# Altium integrated library Actel ProASIC3 FPGA.IntLib: 373 symbols (part 2 of 2)
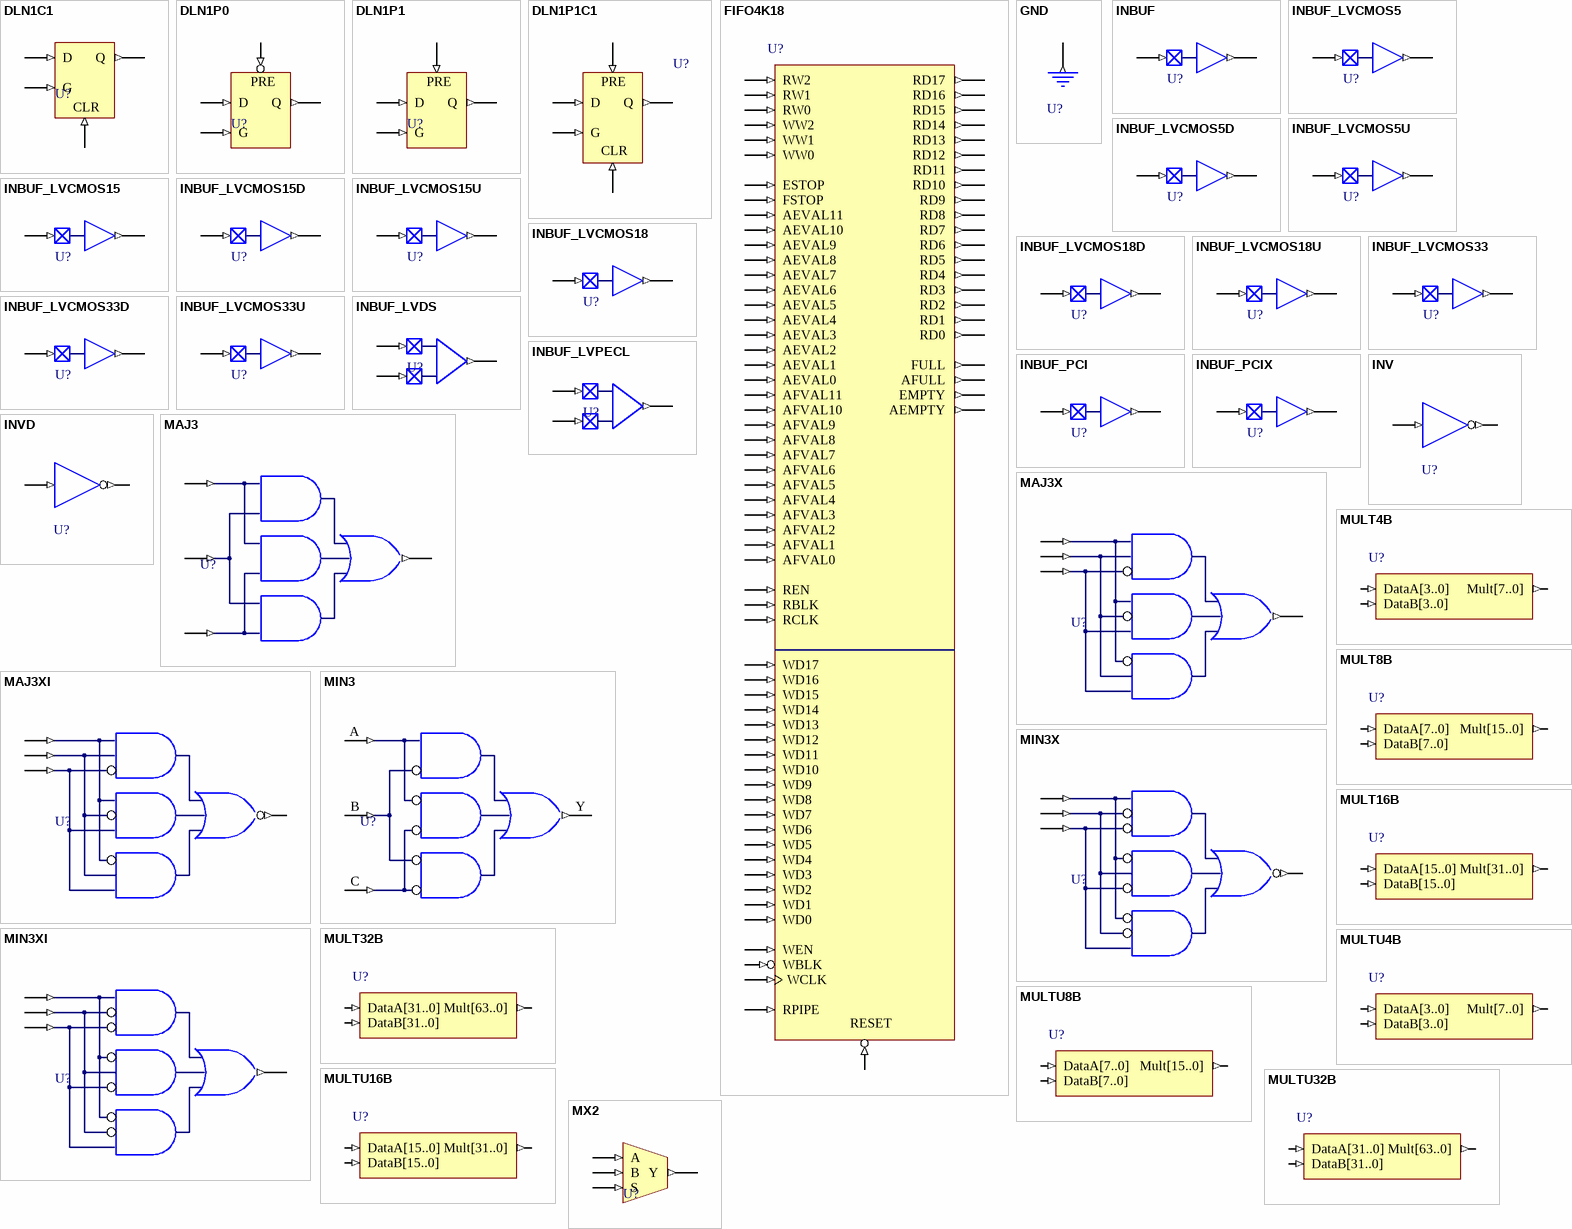
[diagram p10: symbols DLN1C1 to MX2]

## FIFO4K18
designator U?
FIFO4K18 is fully synchronous and has its own built-in controller, capable of variable aspect ratios.; FPGAVendor: Actel; Published: 25-Oct-2005; Publisher: Altium Limited; HelpURL: http://www.actel.com/documents/pa3_libguide.pdf
pins: AEMPTY (out), AEVAL0 (in), AEVAL1 (in), AEVAL2 (in), AEVAL3 (in), AEVAL4 (in), AEVAL5 (in), AEVAL6 (in), AEVAL7 (in), AEVAL8 (in), AEVAL9 (in), AEVAL10 (in), AEVAL11 (in), AFULL (out), AFVAL0 (in), AFVAL1 (in), AFVAL2 (in), AFVAL3 (in), AFVAL4 (in), AFVAL5 (in), AFVAL6 (in), AFVAL7 (in), AFVAL8 (in), AFVAL9 (in), AFVAL10 (in), AFVAL11 (in), EMPTY (out), ESTOP (in), FSTOP (in), FULL (out), RBLK (in), RCLK (in), RD0 (out), RD1 (out), RD2 (out), RD3 (out), RD4 (out), RD5 (out), RD6 (out), RD7 (out), RD8 (out), RD9 (out), RD10 (out), RD11 (out), RD12 (out), RD13 (out), RD14 (out), RD15 (out), RD16 (out), RD17 (out), REN (in), RESET (in), RPIPE (in), RW0 (in), RW1 (in), RW2 (in), WBLK (in), WCLK (in), WD0 (in), WD1 (in), WD2 (in), WD3 (in), WD4 (in), WD5 (in), WD6 (in), WD7 (in), WD8 (in), WD9 (in), WD10 (in), WD11 (in), WD12 (in), WD13 (in), WD14 (in), WD15 (in), WD16 (in), WD17 (in), WEN (in), WW0 (in), WW1 (in), WW2 (in)

## GND
designator U?
Ground; FPGAVendor: Actel; Published: 25-Oct-2005; Publisher: Altium Limited; HelpURL: http://www.actel.com/documents/pa3_libguide.pdf
pins: Y (out)

## INBUF
designator U?
Input Buffer; FPGAVendor: Actel; Published: 25-Oct-2005; Publisher: Altium Limited; HelpURL: http://www.actel.com/documents/pa3_libguide.pdf
pins: PAD (in), Y (out)

## INBUF_LVCMOS5
designator U?
LVCMOS Input buffer with 5.0 CMOS voltage level; FPGAVendor: Actel; Published: 25-Oct-2005; Publisher: Altium Limited; HelpURL: http://www.actel.com/documents/pa3_libguide.pdf
pins: PAD (in), Y (out)

## INBUF_LVCMOS5D
designator U?
LVCMOS Input buffer with 5.0 CMOS voltage level, pull-down resistor; FPGAVendor: Actel; Published: 25-Oct-2005; Publisher: Altium Limited; HelpURL: http://www.actel.com/documents/pa3_libguide.pdf
pins: PAD (in), Y (out)

## INBUF_LVCMOS5U
designator U?
LVCMOS Input buffer with 5.0 CMOS voltage level, pull-up resistor; FPGAVendor: Actel; Published: 25-Oct-2005; Publisher: Altium Limited; HelpURL: http://www.actel.com/documents/pa3_libguide.pdf
pins: PAD (in), Y (out)

## INBUF_LVCMOS15
designator U?
LVCMOS Input buffer with 1.5 CMOS voltage level; FPGAVendor: Actel; Published: 25-Oct-2005; Publisher: Altium Limited; HelpURL: http://www.actel.com/documents/pa3_libguide.pdf
pins: PAD (in), Y (out)

## INBUF_LVCMOS15D
designator U?
LVCMOS Input buffer with 1.5 CMOS voltage level, pull-down resistor; FPGAVendor: Actel; Published: 25-Oct-2005; Publisher: Altium Limited; HelpURL: http://www.actel.com/documents/pa3_libguide.pdf
pins: PAD (in), Y (out)

## INBUF_LVCMOS15U
designator U?
LVCMOS Input buffer with 1.5 CMOS voltage level, pull-up resistor; FPGAVendor: Actel; Published: 25-Oct-2005; Publisher: Altium Limited; HelpURL: http://www.actel.com/documents/pa3_libguide.pdf
pins: PAD (in), Y (out)

## INBUF_LVCMOS18
designator U?
LVCMOS Input buffer with 1.8 CMOS voltage level; FPGAVendor: Actel; Published: 25-Oct-2005; Publisher: Altium Limited; HelpURL: http://www.actel.com/documents/pa3_libguide.pdf
pins: PAD (in), Y (out)

## INBUF_LVCMOS18D
designator U?
LVCMOS Input buffer with 1.8 CMOS voltage level, pull-down resistor; FPGAVendor: Actel; Published: 25-Oct-2005; Publisher: Altium Limited; HelpURL: http://www.actel.com/documents/pa3_libguide.pdf
pins: PAD (in), Y (out)

## INBUF_LVCMOS18U
designator U?
LVCMOS Input buffer with 1.8 CMOS voltage level, pull-up resistor; FPGAVendor: Actel; Published: 25-Oct-2005; Publisher: Altium Limited; HelpURL: http://www.actel.com/documents/pa3_libguide.pdf
pins: PAD (in), Y (out)

## INBUF_LVCMOS33
designator U?
LVCMOS Input buffer with 3.3 CMOS voltage level; FPGAVendor: Actel; Published: 25-Oct-2005; Publisher: Altium Limited; HelpURL: http://www.actel.com/documents/pa3_libguide.pdf
pins: PAD (in), Y (out)

## INBUF_LVCMOS33D
designator U?
LVCMOS Input buffer with 3.3 CMOS voltage level, pull-down resistor; FPGAVendor: Actel; Published: 25-Oct-2005; Publisher: Altium Limited; HelpURL: http://www.actel.com/documents/pa3_libguide.pdf
pins: PAD (in), Y (out)

## INBUF_LVCMOS33U
designator U?
LVCMOS Input buffer with 3.3 CMOS voltage level, pull-up resistor; FPGAVendor: Actel; Published: 25-Oct-2005; Publisher: Altium Limited; HelpURL: http://www.actel.com/documents/pa3_libguide.pdf
pins: PAD (in), Y (out)

## INBUF_LVDS
designator U?
Input Buffer; FPGAVendor: Actel; Published: 25-Oct-2005; Publisher: Altium Limited; HelpURL: http://www.actel.com/documents/pa3_libguide.pdf
pins: PADN (in), PADP (in), Y (out)

## INBUF_LVPECL
designator U?
Input Buffer; FPGAVendor: Actel; Published: 25-Oct-2005; Publisher: Altium Limited; HelpURL: http://www.actel.com/documents/pa3_libguide.pdf
pins: PADN (in), PADP (in), Y (out)

## INBUF_PCI
designator U?
PCI Input buffer; FPGAVendor: Actel; Published: 25-Oct-2005; Publisher: Altium Limited; HelpURL: http://www.actel.com/documents/pa3_libguide.pdf
pins: PAD (in), Y (out)

## INBUF_PCIX
designator U?
PCIX Input buffer; FPGAVendor: Actel; Published: 25-Oct-2005; Publisher: Altium Limited; HelpURL: http://www.actel.com/documents/pa3_libguide.pdf
pins: PAD (in), Y (out)

## INV
designator U?
Inverter with active low Output; FPGAVendor: Actel; Published: 25-Oct-2005; Publisher: Altium Limited; HelpURL: http://www.actel.com/documents/pa3_libguide.pdf
pins: A (in), Y (out)

## INVD
designator U?
Inverter with active low Output; FPGAVendor: Actel; Published: 25-Oct-2005; Publisher: Altium Limited; HelpURL: http://www.actel.com/documents/pa3_libguide.pdf
pins: A (in), Y (out)

## MAJ3
designator U?
3-Input majority function; FPGAVendor: Actel; Published: 25-Oct-2005; Publisher: Altium Limited; HelpURL: http://www.actel.com/documents/pa3_libguide.pdf
pins: A (in), B (in), C (in), Y (out)

## MAJ3X
designator U?
2 of 3 function; FPGAVendor: Actel; Published: 25-Oct-2005; Publisher: Altium Limited; HelpURL: http://www.actel.com/documents/pa3_libguide.pdf
pins: A (in), B (in), C (in), Y (out)

## MAJ3XI
designator U?
2 of 3 function with active low output; FPGAVendor: Actel; Published: 25-Oct-2005; Publisher: Altium Limited; HelpURL: http://www.actel.com/documents/pa3_libguide.pdf
pins: A (in), B (in), C (in), Y (out)

## MIN3
designator U?
3-Input minority function; FPGAVendor: Actel; Published: 25-Oct-2005; Publisher: Altium Limited; HelpURL: http://www.actel.com/documents/pa3_libguide.pdf
pins: A (in), B (in), C (in), Y (out)

## MIN3X
designator U?
1 of 3 function; FPGAVendor: Actel; Published: 25-Oct-2005; Publisher: Altium Limited; HelpURL: http://www.actel.com/documents/pa3_libguide.pdf
pins: A (in), B (in), C (in), Y (out)

## MIN3XI
designator U?
1 of 3 function with active low output; FPGAVendor: Actel; Published: 25-Oct-2005; Publisher: Altium Limited; HelpURL: http://www.actel.com/documents/pa3_libguide.pdf
pins: A (in), B (in), C (in), Y (out)

## MULT4B
designator U?
4-Bit Signed Multiplier; FPGAVendor: Actel; Published: 25-Oct-2005; Publisher: Altium Limited; HelpURL: http://www.actel.com/documents/pa3_libguide.pdf
pins: DataA[3..0] (in), DataB[3..0] (in), Mult[7..0] (out)

## MULT8B
designator U?
8-Bit Signed Multiplier; FPGAVendor: Actel; Published: 25-Oct-2005; Publisher: Altium Limited; HelpURL: http://www.actel.com/documents/pa3_libguide.pdf
pins: DataA[7..0] (in), DataB[7..0] (in), Mult[15..0] (out)

## MULT16B
designator U?
16-Bit Signed Multiplier; FPGAVendor: Actel; Published: 25-Oct-2005; Publisher: Altium Limited; HelpURL: http://www.actel.com/documents/pa3_libguide.pdf
pins: DataA[15..0] (in), DataB[15..0] (in), Mult[31..0] (out)

## MULT32B
designator U?
32-Bit Signed Multiplier; FPGAVendor: Actel; Published: 25-Oct-2005; Publisher: Altium Limited; HelpURL: http://www.actel.com/documents/pa3_libguide.pdf
pins: DataA[31..0] (in), DataB[31..0] (in), Mult[63..0] (out)

## MULTU4B
designator U?
4-Bit Unsigned Multiplier; FPGAVendor: Actel; Published: 25-Oct-2005; Publisher: Altium Limited; HelpURL: http://www.actel.com/documents/pa3_libguide.pdf
pins: DataA[3..0] (in), DataB[3..0] (in), Mult[7..0] (out)

## MULTU8B
designator U?
8-Bit Unsigned Multiplier; FPGAVendor: Actel; Published: 25-Oct-2005; Publisher: Altium Limited; HelpURL: http://www.actel.com/documents/pa3_libguide.pdf
pins: DataA[7..0] (in), DataB[7..0] (in), Mult[15..0] (out)

## MULTU16B
designator U?
16-Bit Unsigned Multiplier; FPGAVendor: Actel; Published: 25-Oct-2005; Publisher: Altium Limited; HelpURL: http://www.actel.com/documents/pa3_libguide.pdf
pins: DataA[15..0] (in), DataB[15..0] (in), Mult[31..0] (out)

## MULTU32B
designator U?
32-Bit Unsigned Multiplier; FPGAVendor: Actel; Published: 25-Oct-2005; Publisher: Altium Limited; HelpURL: http://www.actel.com/documents/pa3_libguide.pdf
pins: DataA[31..0] (in), DataB[31..0] (in), Mult[63..0] (out)

## MX2
designator U?
2 to 1 Multiplexer; FPGAVendor: Actel; Published: 25-Oct-2005; Publisher: Altium Limited; HelpURL: http://www.actel.com/documents/pa3_libguide.pdf
pins: A (in), B (in), S (in), Y (out)

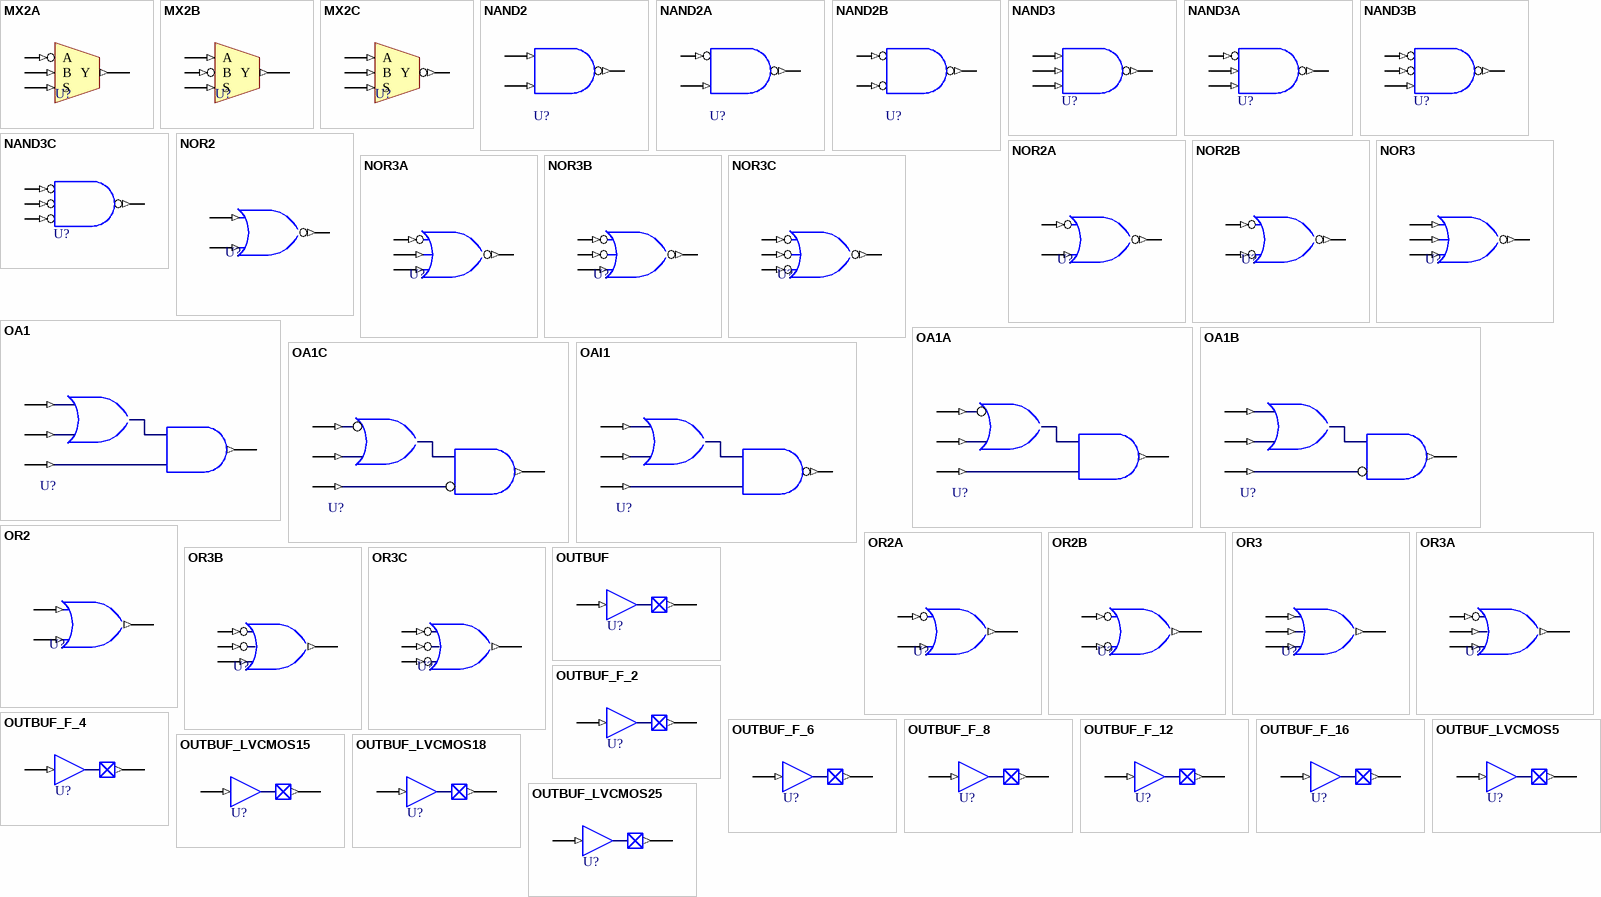
[diagram p6: symbols MX2A to OUTBUF_LVCMOS25]

## MX2A
designator U?
2 to 1 Multiplexer with active low A-Input; FPGAVendor: Actel; Published: 25-Oct-2005; Publisher: Altium Limited; HelpURL: http://www.actel.com/documents/pa3_libguide.pdf
pins: A (in), B (in), S (in), Y (out)

## MX2B
designator U?
2 to 1 Multiplexer with active low B-Input; FPGAVendor: Actel; Published: 25-Oct-2005; Publisher: Altium Limited; HelpURL: http://www.actel.com/documents/pa3_libguide.pdf
pins: A (in), B (in), S (in), Y (out)

## MX2C
designator U?
2 to 1 Multiplexer with active low Output; FPGAVendor: Actel; Published: 25-Oct-2005; Publisher: Altium Limited; HelpURL: http://www.actel.com/documents/pa3_libguide.pdf
pins: A (in), B (in), S (in), Y (out)

## NAND2
designator U?
2-Input NAND; FPGAVendor: Actel; Published: 25-Oct-2005; Publisher: Altium Limited; HelpURL: http://www.actel.com/documents/pa3_libguide.pdf
pins: A (in), B (in), Y (out)

## NAND2A
designator U?
2-Input NAND with active low A-Input; FPGAVendor: Actel; Published: 25-Oct-2005; Publisher: Altium Limited; HelpURL: http://www.actel.com/documents/pa3_libguide.pdf
pins: A (in), B (in), Y (out)

## NAND2B
designator U?
2-Input NAND with active low Inputs; FPGAVendor: Actel; Published: 25-Oct-2005; Publisher: Altium Limited; HelpURL: http://www.actel.com/documents/pa3_libguide.pdf
pins: A (in), B (in), Y (out)

## NAND3
designator U?
3-Input NAND; FPGAVendor: Actel; Published: 25-Oct-2005; Publisher: Altium Limited; HelpURL: http://www.actel.com/documents/pa3_libguide.pdf
pins: A (in), B (in), C (in), Y (out)

## NAND3A
designator U?
3-Input NAND with active low A-Input; FPGAVendor: Actel; Published: 25-Oct-2005; Publisher: Altium Limited; HelpURL: http://www.actel.com/documents/pa3_libguide.pdf
pins: A (in), B (in), C (in), Y (out)

## NAND3B
designator U?
3-Input NAND with active low A- and B-Inputs; FPGAVendor: Actel; Published: 25-Oct-2005; Publisher: Altium Limited; HelpURL: http://www.actel.com/documents/pa3_libguide.pdf
pins: A (in), B (in), C (in), Y (out)

## NAND3C
designator U?
3-Input NAND with active low Inputs; FPGAVendor: Actel; Published: 25-Oct-2005; Publisher: Altium Limited; HelpURL: http://www.actel.com/documents/pa3_libguide.pdf
pins: A (in), B (in), C (in), Y (out)

## NOR2
designator U?
2-Input NOR; FPGAVendor: Actel; Published: 25-Oct-2005; Publisher: Altium Limited; HelpURL: http://www.actel.com/documents/pa3_libguide.pdf
pins: A (in), B (in), Y (out)

## NOR2A
designator U?
2-Input NOR with active low A-Input; FPGAVendor: Actel; Published: 25-Oct-2005; Publisher: Altium Limited; HelpURL: http://www.actel.com/documents/pa3_libguide.pdf
pins: A (in), B (in), Y (out)

## NOR2B
designator U?
2-Input NOR with active low Inputs; FPGAVendor: Actel; Published: 25-Oct-2005; Publisher: Altium Limited; HelpURL: http://www.actel.com/documents/pa3_libguide.pdf
pins: A (in), B (in), Y (out)

## NOR3
designator U?
3-Input NOR; FPGAVendor: Actel; Published: 25-Oct-2005; Publisher: Altium Limited; HelpURL: http://www.actel.com/documents/pa3_libguide.pdf
pins: A (in), B (in), C (in), Y (out)

## NOR3A
designator U?
3-Input NOR with active low A-Input; FPGAVendor: Actel; Published: 25-Oct-2005; Publisher: Altium Limited; HelpURL: http://www.actel.com/documents/pa3_libguide.pdf
pins: A (in), B (in), C (in), Y (out)

## NOR3B
designator U?
3-Input NOR with active low A- and B-Inputs; FPGAVendor: Actel; Published: 25-Oct-2005; Publisher: Altium Limited; HelpURL: http://www.actel.com/documents/pa3_libguide.pdf
pins: A (in), B (in), C (in), Y (out)

## NOR3C
designator U?
3-Input NOR with active low Inputs; FPGAVendor: Actel; Published: 25-Oct-2005; Publisher: Altium Limited; HelpURL: http://www.actel.com/documents/pa3_libguide.pdf
pins: A (in), B (in), C (in), Y (out)

## OA1
designator U?
3 Input OR-AND; FPGAVendor: Actel; Published: 25-Oct-2005; Publisher: Altium Limited; HelpURL: http://www.actel.com/documents/pa3_libguide.pdf
pins: A (in), B (in), C (in), Y (out)

## OA1A
designator U?
3 Input OR-AND with active low A-Input; FPGAVendor: Actel; Published: 25-Oct-2005; Publisher: Altium Limited; HelpURL: http://www.actel.com/documents/pa3_libguide.pdf
pins: A (in), B (in), C (in), Y (out)

## OA1B
designator U?
3 Input OR-AND with active low C-Input; FPGAVendor: Actel; Published: 25-Oct-2005; Publisher: Altium Limited; HelpURL: http://www.actel.com/documents/pa3_libguide.pdf
pins: A (in), B (in), C (in), Y (out)

## OA1C
designator U?
3 Input OR-AND with active low A- and C-Inputs; FPGAVendor: Actel; Published: 25-Oct-2005; Publisher: Altium Limited; HelpURL: http://www.actel.com/documents/pa3_libguide.pdf
pins: A (in), B (in), C (in), Y (out)

## OAI1
designator U?
3-Input OR-AND-INVERT; FPGAVendor: Actel; Published: 25-Oct-2005; Publisher: Altium Limited; HelpURL: http://www.actel.com/documents/pa3_libguide.pdf
pins: A (in), B (in), C (in), Y (out)

## OR2
designator U?
2-Input OR; FPGAVendor: Actel; Published: 25-Oct-2005; Publisher: Altium Limited; HelpURL: http://www.actel.com/documents/pa3_libguide.pdf
pins: A (in), B (in), Y (out)

## OR2A
designator U?
2-Input OR with active low A-Input; FPGAVendor: Actel; Published: 25-Oct-2005; Publisher: Altium Limited; HelpURL: http://www.actel.com/documents/pa3_libguide.pdf
pins: A (in), B (in), Y (out)

## OR2B
designator U?
2-Input OR with active low Inputs; FPGAVendor: Actel; Published: 25-Oct-2005; Publisher: Altium Limited; HelpURL: http://www.actel.com/documents/pa3_libguide.pdf
pins: A (in), B (in), Y (out)

## OR3
designator U?
3-Input OR; FPGAVendor: Actel; Published: 25-Oct-2005; Publisher: Altium Limited; HelpURL: http://www.actel.com/documents/pa3_libguide.pdf
pins: A (in), B (in), C (in), Y (out)

## OR3A
designator U?
3-Input OR with active low A-Input; FPGAVendor: Actel; Published: 25-Oct-2005; Publisher: Altium Limited; HelpURL: http://www.actel.com/documents/pa3_libguide.pdf
pins: A (in), B (in), C (in), Y (out)

## OR3B
designator U?
3-Input OR with active low A- and B-Inputs; FPGAVendor: Actel; Published: 25-Oct-2005; Publisher: Altium Limited; HelpURL: http://www.actel.com/documents/pa3_libguide.pdf
pins: A (in), B (in), C (in), Y (out)

## OR3C
designator U?
3-Input OR with active low Inputs; FPGAVendor: Actel; Published: 25-Oct-2005; Publisher: Altium Limited; HelpURL: http://www.actel.com/documents/pa3_libguide.pdf
pins: A (in), B (in), C (in), Y (out)

## OUTBUF
designator U?
Output Buffer, High Slew; FPGAVendor: Actel; Published: 25-Oct-2005; Publisher: Altium Limited; HelpURL: http://www.actel.com/documents/pa3_libguide.pdf
pins: D (in), PAD (out)

## OUTBUF_F_2
designator U?
Output buffer with high slew; FPGAVendor: Actel; Published: 25-Oct-2005; Publisher: Altium Limited; HelpURL: http://www.actel.com/documents/pa3_libguide.pdf
pins: D (in), PAD (out)

## OUTBUF_F_4
designator U?
Output buffer with high slew; FPGAVendor: Actel; Published: 25-Oct-2005; Publisher: Altium Limited; HelpURL: http://www.actel.com/documents/pa3_libguide.pdf
pins: D (in), PAD (out)

## OUTBUF_F_6
designator U?
Output buffer with high slew; FPGAVendor: Actel; Published: 25-Oct-2005; Publisher: Altium Limited; HelpURL: http://www.actel.com/documents/pa3_libguide.pdf
pins: D (in), PAD (out)

## OUTBUF_F_8
designator U?
Output buffer with high slew; FPGAVendor: Actel; Published: 25-Oct-2005; Publisher: Altium Limited; HelpURL: http://www.actel.com/documents/pa3_libguide.pdf
pins: D (in), PAD (out)

## OUTBUF_F_12
designator U?
Output buffer with high slew; FPGAVendor: Actel; Published: 25-Oct-2005; Publisher: Altium Limited; HelpURL: http://www.actel.com/documents/pa3_libguide.pdf
pins: D (in), PAD (out)

## OUTBUF_F_16
designator U?
Output buffer with high slew; FPGAVendor: Actel; Published: 25-Oct-2005; Publisher: Altium Limited; HelpURL: http://www.actel.com/documents/pa3_libguide.pdf
pins: D (in), PAD (out)

## OUTBUF_LVCMOS5
designator U?
LVCMOS Output buffer with 1.5 CMOS voltage level; FPGAVendor: Actel; Published: 25-Oct-2005; Publisher: Altium Limited; HelpURL: http://www.actel.com/documents/pa3_libguide.pdf
pins: D (in), PAD (out)

## OUTBUF_LVCMOS15
designator U?
LVCMOSOutput buffer with 1.5 CMOS voltageLevel; FPGAVendor: Actel; Published: 25-Oct-2005; Publisher: Altium Limited; HelpURL: http://www.actel.com/documents/pa3_libguide.pdf
pins: D (in), PAD (out)

## OUTBUF_LVCMOS18
designator U?
LVCMOSOutput buffer with 1.8 CMOS voltageLevel; FPGAVendor: Actel; Published: 25-Oct-2005; Publisher: Altium Limited; HelpURL: http://www.actel.com/documents/pa3_libguide.pdf
pins: D (in), PAD (out)

## OUTBUF_LVCMOS25
designator U?
LVCMOSOutput buffer with 3.3 CMOS voltageLevel; FPGAVendor: Actel; Published: 25-Oct-2005; Publisher: Altium Limited; HelpURL: http://www.actel.com/documents/pa3_libguide.pdf
pins: D (in), PAD (out)

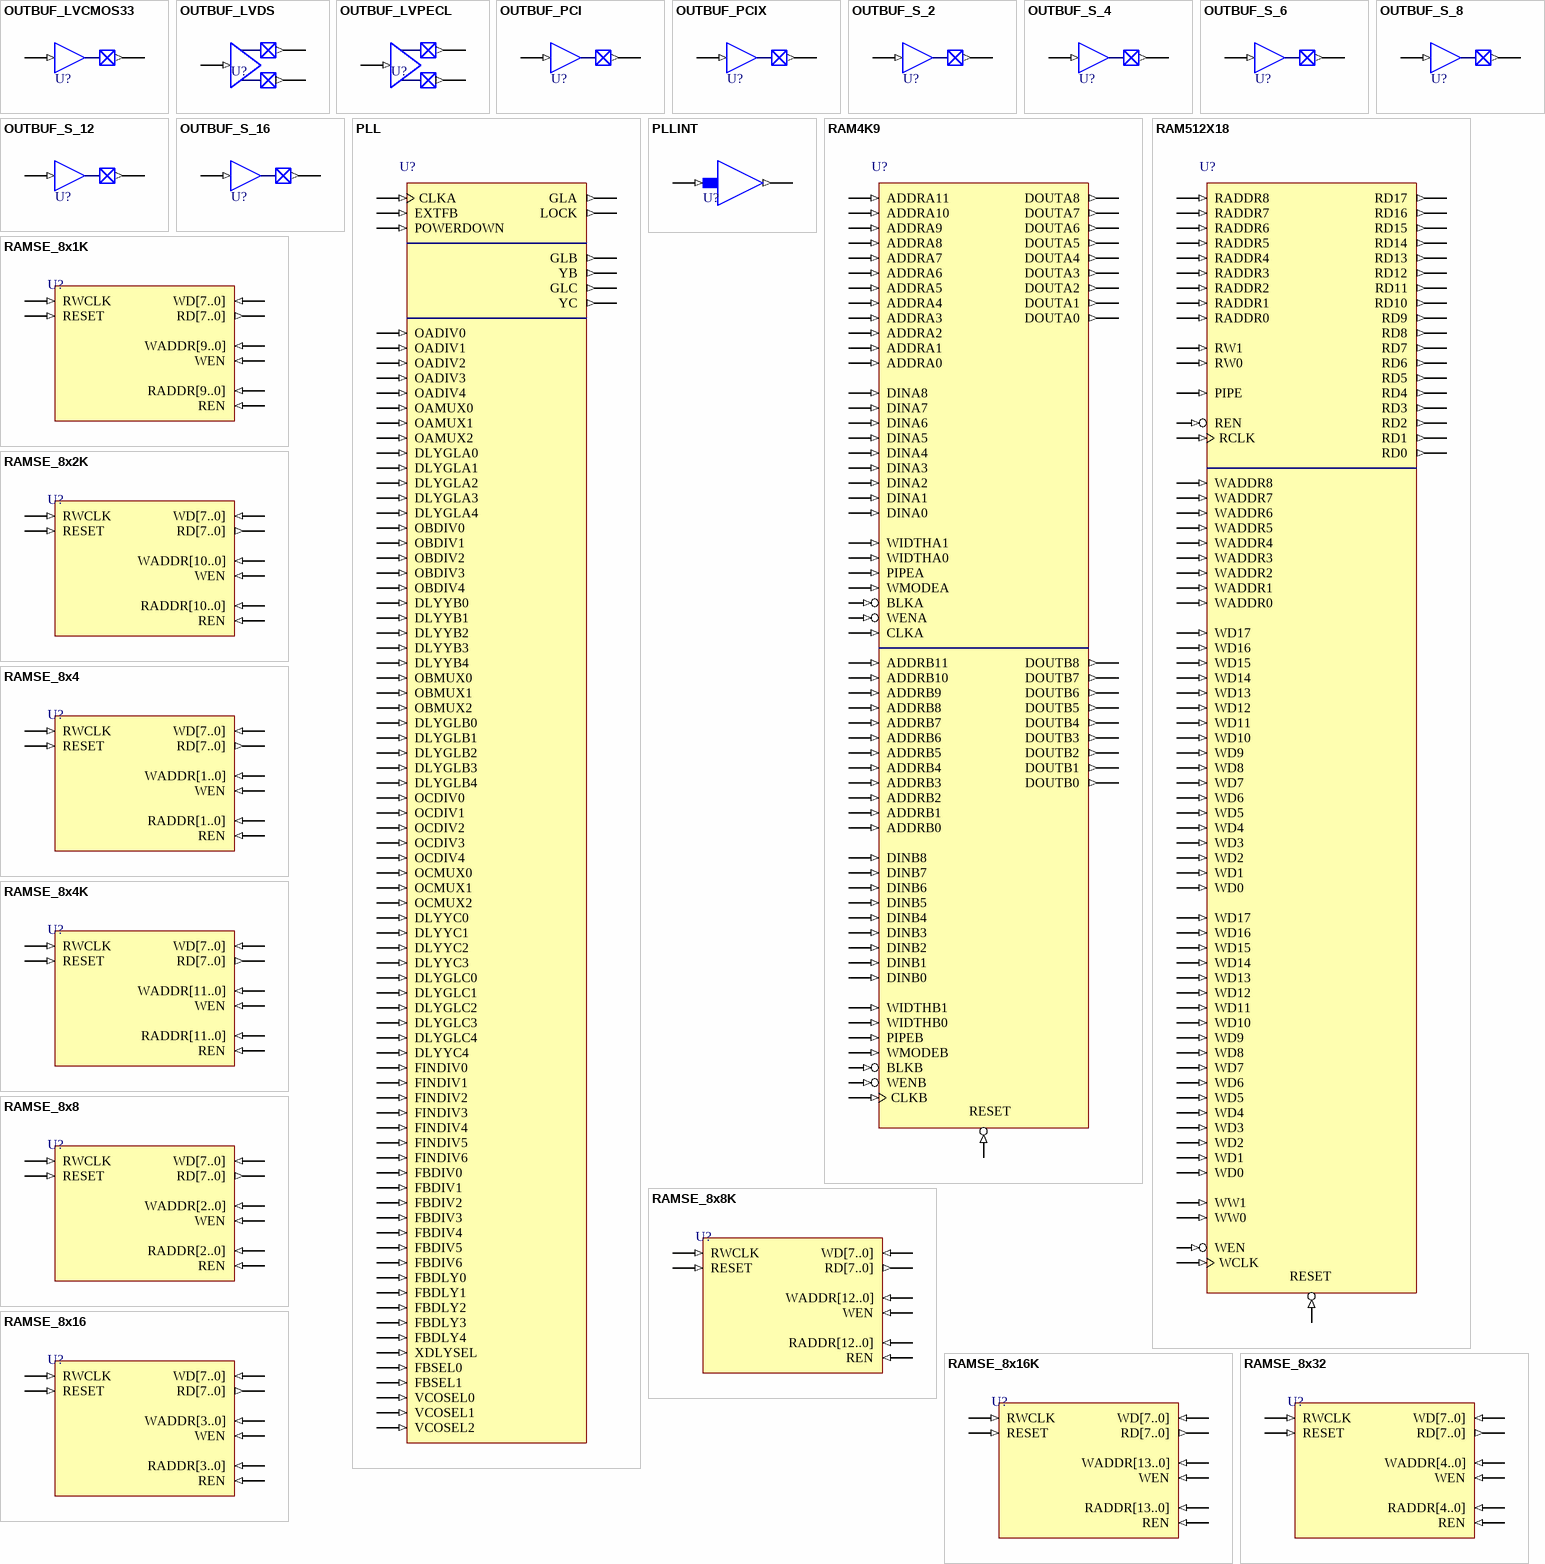
[diagram p7: symbols OUTBUF_LVCMOS33 to RAMSE_8x32]

## OUTBUF_LVCMOS33
designator U?
LVCMOSOutput buffer with 5.0 CMOS voltageLevel; FPGAVendor: Actel; Published: 25-Oct-2005; Publisher: Altium Limited; HelpURL: http://www.actel.com/documents/pa3_libguide.pdf
pins: D (in), PAD (out)

## OUTBUF_LVDS
designator U?
Output Buffer; FPGAVendor: Actel; Published: 25-Oct-2005; Publisher: Altium Limited; HelpURL: http://www.actel.com/documents/pa3_libguide.pdf
pins: D (in), PADN (out), PADP (out)

## OUTBUF_LVPECL
designator U?
Output Buffer; FPGAVendor: Actel; Published: 25-Oct-2005; Publisher: Altium Limited; HelpURL: http://www.actel.com/documents/pa3_libguide.pdf
pins: D (in), PADN (out), PADP (out)

## OUTBUF_PCI
designator U?
PCIOutput buffer; FPGAVendor: Actel; Published: 25-Oct-2005; Publisher: Altium Limited; HelpURL: http://www.actel.com/documents/pa3_libguide.pdf
pins: D (in), PAD (out)

## OUTBUF_PCIX
designator U?
PCIXOutput buffer; FPGAVendor: Actel; Published: 25-Oct-2005; Publisher: Altium Limited; HelpURL: http://www.actel.com/documents/pa3_libguide.pdf
pins: D (in), PAD (out)

## OUTBUF_S_2
designator U?
Output buffer withLow slew; FPGAVendor: Actel; Published: 25-Oct-2005; Publisher: Altium Limited; HelpURL: http://www.actel.com/documents/pa3_libguide.pdf
pins: D (in), PAD (out)

## OUTBUF_S_4
designator U?
Output buffer withLow slew; FPGAVendor: Actel; Published: 25-Oct-2005; Publisher: Altium Limited; HelpURL: http://www.actel.com/documents/pa3_libguide.pdf
pins: D (in), PAD (out)

## OUTBUF_S_6
designator U?
Output buffer withLow slew; FPGAVendor: Actel; Published: 25-Oct-2005; Publisher: Altium Limited; HelpURL: http://www.actel.com/documents/pa3_libguide.pdf
pins: D (in), PAD (out)

## OUTBUF_S_8
designator U?
Output buffer withLow slew; FPGAVendor: Actel; Published: 25-Oct-2005; Publisher: Altium Limited; HelpURL: http://www.actel.com/documents/pa3_libguide.pdf
pins: D (in), PAD (out)

## OUTBUF_S_12
designator U?
Output buffer withLow slew; FPGAVendor: Actel; Published: 25-Oct-2005; Publisher: Altium Limited; HelpURL: http://www.actel.com/documents/pa3_libguide.pdf
pins: D (in), PAD (out)

## OUTBUF_S_16
designator U?
Output buffer withLow slew; FPGAVendor: Actel; Published: 25-Oct-2005; Publisher: Altium Limited; HelpURL: http://www.actel.com/documents/pa3_libguide.pdf
pins: D (in), PAD (out)

## PLL
designator U?
Static PLL; FPGAVendor: Actel; Published: 25-Oct-2005; Publisher: Altium Limited; HelpURL: http://www.actel.com/documents/pa3_libguide.pdf
pins: CLKA (in), DLYGLA0 (in), DLYGLA1 (in), DLYGLA2 (in), DLYGLA3 (in), DLYGLA4 (in), DLYGLB0 (in), DLYGLB1 (in), DLYGLB2 (in), DLYGLB3 (in), DLYGLB4 (in), DLYGLC0 (in), DLYGLC1 (in), DLYGLC2 (in), DLYGLC3 (in), DLYGLC4 (in), DLYYB0 (in), DLYYB1 (in), DLYYB2 (in), DLYYB3 (in), DLYYB4 (in), DLYYC0 (in), DLYYC1 (in), DLYYC2 (in), DLYYC3 (in), DLYYC4 (in), EXTFB (in), FBDIV0 (in), FBDIV1 (in), FBDIV2 (in), FBDIV3 (in), FBDIV4 (in), FBDIV5 (in), FBDIV6 (in), FBDLY0 (in), FBDLY1 (in), FBDLY2 (in), FBDLY3 (in), FBDLY4 (in), FBSEL0 (in), FBSEL1 (in), FINDIV0 (in), FINDIV1 (in), FINDIV2 (in), FINDIV3 (in), FINDIV4 (in), FINDIV5 (in), FINDIV6 (in), GLA (out), GLB (out), GLC (out), LOCK (out), OADIV0 (in), OADIV1 (in), OADIV2 (in), OADIV3 (in), OADIV4 (in), OAMUX0 (in), OAMUX1 (in), OAMUX2 (in), OBDIV0 (in), OBDIV1 (in), OBDIV2 (in), OBDIV3 (in), OBDIV4 (in), OBMUX0 (in), OBMUX1 (in), OBMUX2 (in), OCDIV0 (in), OCDIV1 (in), OCDIV2 (in), OCDIV3 (in), OCDIV4 (in), OCMUX0 (in), OCMUX1 (in), OCMUX2 (in), POWERDOWN (in), VCOSEL0 (in), VCOSEL1 (in), VCOSEL2 (in), XDLYSEL (in), YB (out), YC (out)

## PLLINT
designator U?
Used when REFCLK is driven by a pad in a different I/O tile.; FPGAVendor: Actel; Published: 25-Oct-2005; Publisher: Altium Limited; HelpURL: http://www.actel.com/documents/pa3_libguide.pdf
pins: A (in), Y (out)

## RAM4K9
designator U?
RAM4K9 is a fully synchronous, true dual-port RAM with an optional pipeline stage; FPGAVendor: Actel; Published: 25-Oct-2005; Publisher: Altium Limited; HelpURL: http://www.actel.com/documents/pa3_libguide.pdf
pins: ADDRA0 (in), ADDRA1 (in), ADDRA2 (in), ADDRA3 (in), ADDRA4 (in), ADDRA5 (in), ADDRA6 (in), ADDRA7 (in), ADDRA8 (in), ADDRA9 (in), ADDRA10 (in), ADDRA11 (in), ADDRB0 (in), ADDRB1 (in), ADDRB2 (in), ADDRB3 (in), ADDRB4 (in), ADDRB5 (in), ADDRB6 (in), ADDRB7 (in), ADDRB8 (in), ADDRB9 (in), ADDRB10 (in), ADDRB11 (in), BLKA (in), BLKB (in), CLKA (in), CLKB (in), DINA0 (in), DINA1 (in), DINA2 (in), DINA3 (in), DINA4 (in), DINA5 (in), DINA6 (in), DINA7 (in), DINA8 (in), DINB0 (in), DINB1 (in), DINB2 (in), DINB3 (in), DINB4 (in), DINB5 (in), DINB6 (in), DINB7 (in), DINB8 (in), DOUTA0 (out), DOUTA1 (out), DOUTA2 (out), DOUTA3 (out), DOUTA4 (out), DOUTA5 (out), DOUTA6 (out), DOUTA7 (out), DOUTA8 (out), DOUTB0 (out), DOUTB1 (out), DOUTB2 (out), DOUTB3 (out), DOUTB4 (out), DOUTB5 (out), DOUTB6 (out), DOUTB7 (out), DOUTB8 (out), PIPEA (in), PIPEB (in), RESET (in), WENA (in), WENB (in), WIDTHA0 (in), WIDTHA1 (in), WIDTHB0 (in), WIDTHB1 (in), WMODEA (in), WMODEB (in)

## RAM512X18
designator U?
RAM512X18 is a fully synchronous, two-port RAM with an optional pipeline stage; FPGAVendor: Actel; Published: 25-Oct-2005; Publisher: Altium Limited; HelpURL: http://www.actel.com/documents/pa3_libguide.pdf
pins: PIPE (in), RADDR0 (in), RADDR1 (in), RADDR2 (in), RADDR3 (in), RADDR4 (in), RADDR5 (in), RADDR6 (in), RADDR7 (in), RADDR8 (in), RCLK (in), RD0 (out), RD1 (out), RD2 (out), RD3 (out), RD4 (out), RD5 (out), RD6 (out), RD7 (out), RD8 (out), RD9 (out), RD10 (out), RD11 (out), RD12 (out), RD13 (out), RD14 (out), RD15 (out), RD16 (out), RD17 (out), REN (in), RESET (in), RW0 (in), RW1 (in), WADDR0 (in), WADDR1 (in), WADDR2 (in), WADDR3 (in), WADDR4 (in), WADDR5 (in), WADDR6 (in), WADDR7 (in), WADDR8 (in), WCLK (in), WD0 (in), WD0 (in), WD1 (in), WD1 (in), WD2 (in), WD2 (in), WD3 (in), WD3 (in), WD4 (in), WD4 (in), WD5 (in), WD5 (in), WD6 (in), WD6 (in), WD7 (in), WD7 (in), WD8 (in), WD8 (in), WD9 (in), WD9 (in), WD10 (in), WD10 (in), WD11 (in), WD11 (in), WD12 (in), WD12 (in), WD13 (in), WD13 (in), WD14 (in), WD14 (in), WD15 (in), WD15 (in), WD16 (in), WD16 (in), WD17 (in), WD17 (in), WEN (in), WW0 (in), WW1 (in)

## RAMSE_8x1K
designator U?
Two Port RAM; FPGAVendor: Actel; Published: 25-Oct-2005; Publisher: Altium Limited; HelpURL: http://www.actel.com/documents/pa3_libguide.pdf
pins: RADDR[9..0] (in), RD[7..0] (out), REN (in), RESET (in), RWCLK (in), WADDR[9..0] (in), WD[7..0] (in), WEN (in)

## RAMSE_8x2K
designator U?
Two Port RAM; FPGAVendor: Actel; Published: 25-Oct-2005; Publisher: Altium Limited; HelpURL: http://www.actel.com/documents/pa3_libguide.pdf
pins: RADDR[10..0] (in), RD[7..0] (out), REN (in), RESET (in), RWCLK (in), WADDR[10..0] (in), WD[7..0] (in), WEN (in)

## RAMSE_8x4
designator U?
Two Port RAM; FPGAVendor: Actel; Published: 25-Oct-2005; Publisher: Altium Limited; HelpURL: http://www.actel.com/documents/pa3_libguide.pdf
pins: RADDR[1..0] (in), RD[7..0] (out), REN (in), RESET (in), RWCLK (in), WADDR[1..0] (in), WD[7..0] (in), WEN (in)

## RAMSE_8x4K
designator U?
Two Port RAM; FPGAVendor: Actel; Published: 25-Oct-2005; Publisher: Altium Limited; HelpURL: http://www.actel.com/documents/pa3_libguide.pdf
pins: RADDR[11..0] (in), RD[7..0] (out), REN (in), RESET (in), RWCLK (in), WADDR[11..0] (in), WD[7..0] (in), WEN (in)

## RAMSE_8x8
designator U?
Two Port RAM; FPGAVendor: Actel; Published: 25-Oct-2005; Publisher: Altium Limited; HelpURL: http://www.actel.com/documents/pa3_libguide.pdf
pins: RADDR[2..0] (in), RD[7..0] (out), REN (in), RESET (in), RWCLK (in), WADDR[2..0] (in), WD[7..0] (in), WEN (in)

## RAMSE_8x8K
designator U?
Two Port RAM; FPGAVendor: Actel; Published: 25-Oct-2005; Publisher: Altium Limited; HelpURL: http://www.actel.com/documents/pa3_libguide.pdf
pins: RADDR[12..0] (in), RD[7..0] (out), REN (in), RESET (in), RWCLK (in), WADDR[12..0] (in), WD[7..0] (in), WEN (in)

## RAMSE_8x16
designator U?
Two Port RAM; FPGAVendor: Actel; Published: 25-Oct-2005; Publisher: Altium Limited; HelpURL: http://www.actel.com/documents/pa3_libguide.pdf
pins: RADDR[3..0] (in), RD[7..0] (out), REN (in), RESET (in), RWCLK (in), WADDR[3..0] (in), WD[7..0] (in), WEN (in)

## RAMSE_8x16K
designator U?
Two Port RAM; FPGAVendor: Actel; Published: 25-Oct-2005; Publisher: Altium Limited; HelpURL: http://www.actel.com/documents/pa3_libguide.pdf
pins: RADDR[13..0] (in), RD[7..0] (out), REN (in), RESET (in), RWCLK (in), WADDR[13..0] (in), WD[7..0] (in), WEN (in)

## RAMSE_8x32
designator U?
Two Port RAM; FPGAVendor: Actel; Published: 25-Oct-2005; Publisher: Altium Limited; HelpURL: http://www.actel.com/documents/pa3_libguide.pdf
pins: RADDR[4..0] (in), RD[7..0] (out), REN (in), RESET (in), RWCLK (in), WADDR[4..0] (in), WD[7..0] (in), WEN (in)

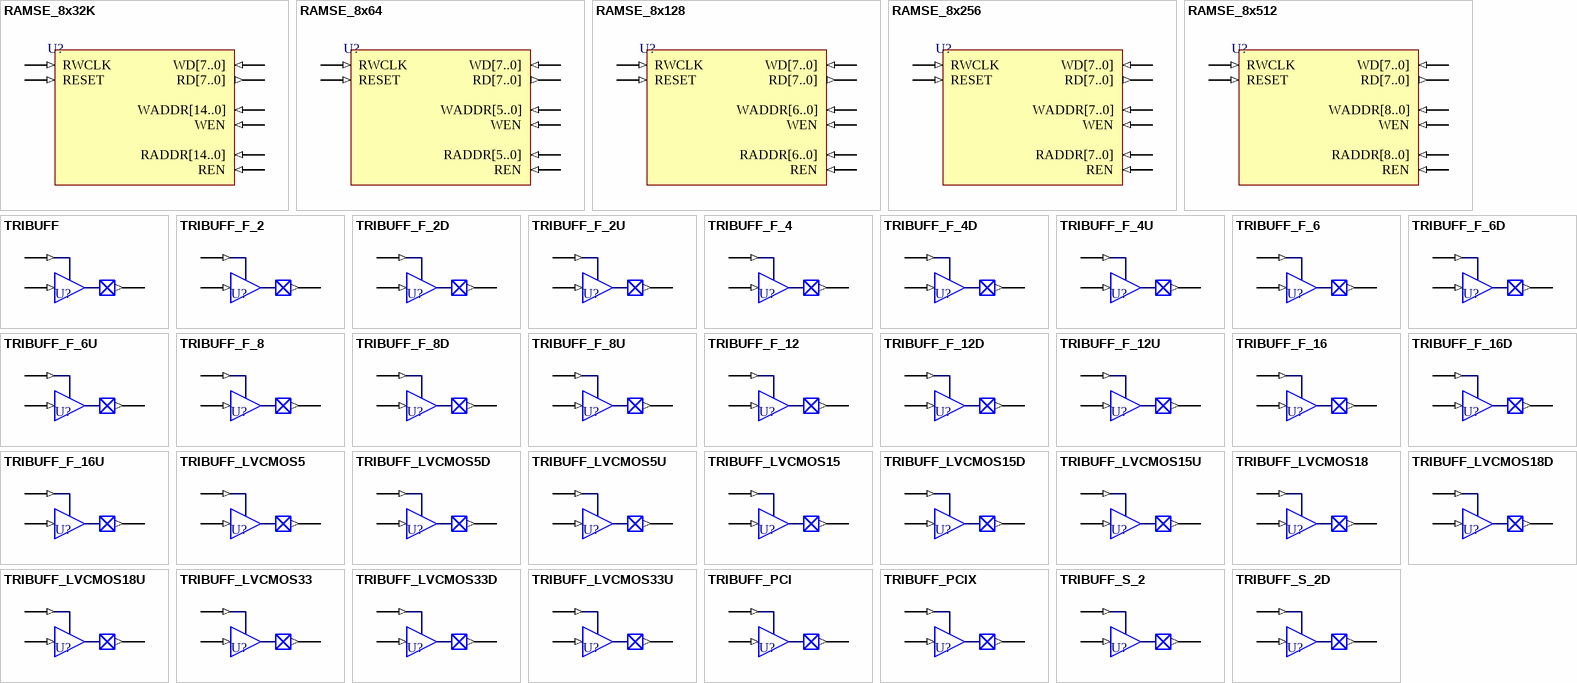
[diagram p8: symbols RAMSE_8x32K to TRIBUFF_S_2D]

## RAMSE_8x32K
designator U?
Two Port RAM; FPGAVendor: Actel; Published: 25-Oct-2005; Publisher: Altium Limited; HelpURL: http://www.actel.com/documents/pa3_libguide.pdf
pins: RADDR[14..0] (in), RD[7..0] (out), REN (in), RESET (in), RWCLK (in), WADDR[14..0] (in), WD[7..0] (in), WEN (in)

## RAMSE_8x64
designator U?
Two Port RAM; FPGAVendor: Actel; Published: 25-Oct-2005; Publisher: Altium Limited; HelpURL: http://www.actel.com/documents/pa3_libguide.pdf
pins: RADDR[5..0] (in), RD[7..0] (out), REN (in), RESET (in), RWCLK (in), WADDR[5..0] (in), WD[7..0] (in), WEN (in)

## RAMSE_8x128
designator U?
Two Port RAM; FPGAVendor: Actel; Published: 25-Oct-2005; Publisher: Altium Limited; HelpURL: http://www.actel.com/documents/pa3_libguide.pdf
pins: RADDR[6..0] (in), RD[7..0] (out), REN (in), RESET (in), RWCLK (in), WADDR[6..0] (in), WD[7..0] (in), WEN (in)

## RAMSE_8x256
designator U?
Two Port RAM; FPGAVendor: Actel; Published: 25-Oct-2005; Publisher: Altium Limited; HelpURL: http://www.actel.com/documents/pa3_libguide.pdf
pins: RADDR[7..0] (in), RD[7..0] (out), REN (in), RESET (in), RWCLK (in), WADDR[7..0] (in), WD[7..0] (in), WEN (in)

## RAMSE_8x512
designator U?
Two Port RAM; FPGAVendor: Actel; Published: 25-Oct-2005; Publisher: Altium Limited; HelpURL: http://www.actel.com/documents/pa3_libguide.pdf
pins: RADDR[8..0] (in), RD[7..0] (out), REN (in), RESET (in), RWCLK (in), WADDR[8..0] (in), WD[7..0] (in), WEN (in)

## TRIBUFF
designator U?
Tristate Output, High Slew; FPGAVendor: Actel; Published: 25-Oct-2005; Publisher: Altium Limited; HelpURL: http://www.actel.com/documents/pa3_libguide.pdf
pins: D (in), E (in), PAD (out)

## TRIBUFF_F_2
designator U?
Tri-state output with high slew; FPGAVendor: Actel; Published: 25-Oct-2005; Publisher: Altium Limited; HelpURL: http://www.actel.com/documents/pa3_libguide.pdf
pins: D (in), E (in), PAD (out)

## TRIBUFF_F_2D
designator U?
Tri-state output with high slew andPull-down resistor; FPGAVendor: Actel; Published: 25-Oct-2005; Publisher: Altium Limited; HelpURL: http://www.actel.com/documents/pa3_libguide.pdf
pins: D (in), E (in), PAD (out)

## TRIBUFF_F_2U
designator U?
Tri-state output with high slew andPull-up resistor; FPGAVendor: Actel; Published: 25-Oct-2005; Publisher: Altium Limited; HelpURL: http://www.actel.com/documents/pa3_libguide.pdf
pins: D (in), E (in), PAD (out)

## TRIBUFF_F_4
designator U?
Tri-state output with high slew; FPGAVendor: Actel; Published: 25-Oct-2005; Publisher: Altium Limited; HelpURL: http://www.actel.com/documents/pa3_libguide.pdf
pins: D (in), E (in), PAD (out)

## TRIBUFF_F_4D
designator U?
Tri-state output with high slew andPull-down resistor; FPGAVendor: Actel; Published: 25-Oct-2005; Publisher: Altium Limited; HelpURL: http://www.actel.com/documents/pa3_libguide.pdf
pins: D (in), E (in), PAD (out)

## TRIBUFF_F_4U
designator U?
Tri-state output with high slew andPull-up resistor; FPGAVendor: Actel; Published: 25-Oct-2005; Publisher: Altium Limited; HelpURL: http://www.actel.com/documents/pa3_libguide.pdf
pins: D (in), E (in), PAD (out)

## TRIBUFF_F_6
designator U?
Tri-state output with high slew; FPGAVendor: Actel; Published: 25-Oct-2005; Publisher: Altium Limited; HelpURL: http://www.actel.com/documents/pa3_libguide.pdf
pins: D (in), E (in), PAD (out)

## TRIBUFF_F_6D
designator U?
Tri-state output with high slew andPull-down resistor; FPGAVendor: Actel; Published: 25-Oct-2005; Publisher: Altium Limited; HelpURL: http://www.actel.com/documents/pa3_libguide.pdf
pins: D (in), E (in), PAD (out)

## TRIBUFF_F_6U
designator U?
Tri-state output with high slew andPull-up resistor; FPGAVendor: Actel; Published: 25-Oct-2005; Publisher: Altium Limited; HelpURL: http://www.actel.com/documents/pa3_libguide.pdf
pins: D (in), E (in), PAD (out)

## TRIBUFF_F_8
designator U?
Tri-state output with high slew; FPGAVendor: Actel; Published: 25-Oct-2005; Publisher: Altium Limited; HelpURL: http://www.actel.com/documents/pa3_libguide.pdf
pins: D (in), E (in), PAD (out)

## TRIBUFF_F_8D
designator U?
Tri-state output with high slew andPull-up resistor; FPGAVendor: Actel; Published: 25-Oct-2005; Publisher: Altium Limited; HelpURL: http://www.actel.com/documents/pa3_libguide.pdf
pins: D (in), E (in), PAD (out)

## TRIBUFF_F_8U
designator U?
Tri-state output with high slew andPull-down resistor; FPGAVendor: Actel; Published: 25-Oct-2005; Publisher: Altium Limited; HelpURL: http://www.actel.com/documents/pa3_libguide.pdf
pins: D (in), E (in), PAD (out)

## TRIBUFF_F_12
designator U?
Tri-state output with high slew; FPGAVendor: Actel; Published: 25-Oct-2005; Publisher: Altium Limited; HelpURL: http://www.actel.com/documents/pa3_libguide.pdf
pins: D (in), E (in), PAD (out)

## TRIBUFF_F_12D
designator U?
Tri-state output with high slew andPull-down resistor; FPGAVendor: Actel; Published: 25-Oct-2005; Publisher: Altium Limited; HelpURL: http://www.actel.com/documents/pa3_libguide.pdf
pins: D (in), E (in), PAD (out)

## TRIBUFF_F_12U
designator U?
Tri-state output with high slew andPull-up resistor; FPGAVendor: Actel; Published: 25-Oct-2005; Publisher: Altium Limited; HelpURL: http://www.actel.com/documents/pa3_libguide.pdf
pins: D (in), E (in), PAD (out)

## TRIBUFF_F_16
designator U?
Tri-state out h slew; FPGAVendor: Actel; Published: 25-Oct-2005; Publisher: Altium Limited; HelpURL: http://www.actel.com/documents/pa3_libguide.pdf
pins: D (in), E (in), PAD (out)

## TRIBUFF_F_16D
designator U?
Tri-state output with high slew andPull-down resistor; FPGAVendor: Actel; Published: 25-Oct-2005; Publisher: Altium Limited; HelpURL: http://www.actel.com/documents/pa3_libguide.pdf
pins: D (in), E (in), PAD (out)

## TRIBUFF_F_16U
designator U?
Tri-state output with high slew and pull-up resistor; FPGAVendor: Actel; Published: 25-Oct-2005; Publisher: Altium Limited; HelpURL: http://www.actel.com/documents/pa3_libguide.pdf
pins: D (in), E (in), PAD (out)

## TRIBUFF_LVCMOS5
designator U?
LVCMOSTri-state output with 5.0 CMOS voltageLevel; FPGAVendor: Actel; Published: 25-Oct-2005; Publisher: Altium Limited; HelpURL: http://www.actel.com/documents/pa3_libguide.pdf
pins: D (in), E (in), PAD (out)

## TRIBUFF_LVCMOS5D
designator U?
LVCMOSTri-state output with 5.0 CMOS voltageLevel,Pull-down resistor; FPGAVendor: Actel; Published: 25-Oct-2005; Publisher: Altium Limited; HelpURL: http://www.actel.com/documents/pa3_libguide.pdf
pins: D (in), E (in), PAD (out)

## TRIBUFF_LVCMOS5U
designator U?
LVCMOSTri-state output with 5.0 CMOS voltageLevel,Pull-up resistor; FPGAVendor: Actel; Published: 25-Oct-2005; Publisher: Altium Limited; HelpURL: http://www.actel.com/documents/pa3_libguide.pdf
pins: D (in), E (in), PAD (out)

## TRIBUFF_LVCMOS15
designator U?
LVCMOSTri-state output with 1.5 CMOS voltageLevel; FPGAVendor: Actel; Published: 25-Oct-2005; Publisher: Altium Limited; HelpURL: http://www.actel.com/documents/pa3_libguide.pdf
pins: D (in), E (in), PAD (out)

## TRIBUFF_LVCMOS15D
designator U?
LVCMOSTri-state output with 1.5 CMOS voltageLevel,Pull-down resistor; FPGAVendor: Actel; Published: 25-Oct-2005; Publisher: Altium Limited; HelpURL: http://www.actel.com/documents/pa3_libguide.pdf
pins: D (in), E (in), PAD (out)

## TRIBUFF_LVCMOS15U
designator U?
LVCMOSTri-state output with 1.5 CMOS voltageLevel,Pull-up resistor; FPGAVendor: Actel; Published: 25-Oct-2005; Publisher: Altium Limited; HelpURL: http://www.actel.com/documents/pa3_libguide.pdf
pins: D (in), E (in), PAD (out)

## TRIBUFF_LVCMOS18
designator U?
LVCMOSTri-state output with 1.8 CMOS voltageLevel; FPGAVendor: Actel; Published: 25-Oct-2005; Publisher: Altium Limited; HelpURL: http://www.actel.com/documents/pa3_libguide.pdf
pins: D (in), E (in), PAD (out)

## TRIBUFF_LVCMOS18D
designator U?
LVCMOSTri-state output with 1.8 CMOS voltageLevel,Pull-down resistor; FPGAVendor: Actel; Published: 25-Oct-2005; Publisher: Altium Limited; HelpURL: http://www.actel.com/documents/pa3_libguide.pdf
pins: D (in), E (in), PAD (out)

## TRIBUFF_LVCMOS18U
designator U?
LVCMOSTri-state output with 1.8 CMOS voltageLevel,Pull-up resistor; FPGAVendor: Actel; Published: 25-Oct-2005; Publisher: Altium Limited; HelpURL: http://www.actel.com/documents/pa3_libguide.pdf
pins: D (in), E (in), PAD (out)

## TRIBUFF_LVCMOS33
designator U?
LVCMOSTri-state output with 3.3 CMOS voltageLevel; FPGAVendor: Actel; Published: 25-Oct-2005; Publisher: Altium Limited; HelpURL: http://www.actel.com/documents/pa3_libguide.pdf
pins: D (in), E (in), PAD (out)

## TRIBUFF_LVCMOS33D
designator U?
LVCMOSTri-state output with 3.3 CMOS voltageLevel,Pull-down resistor; FPGAVendor: Actel; Published: 25-Oct-2005; Publisher: Altium Limited; HelpURL: http://www.actel.com/documents/pa3_libguide.pdf
pins: D (in), E (in), PAD (out)

## TRIBUFF_LVCMOS33U
designator U?
LVCMOSTri-state output with 3.3 CMOS voltageLevel,Pull-up resistor; FPGAVendor: Actel; Published: 25-Oct-2005; Publisher: Altium Limited; HelpURL: http://www.actel.com/documents/pa3_libguide.pdf
pins: D (in), E (in), PAD (out)

## TRIBUFF_PCI
designator U?
PCITri-state output; FPGAVendor: Actel; Published: 25-Oct-2005; Publisher: Altium Limited; HelpURL: http://www.actel.com/documents/pa3_libguide.pdf
pins: D (in), E (in), PAD (out)

## TRIBUFF_PCIX
designator U?
PCIXTri-state output; FPGAVendor: Actel; Published: 25-Oct-2005; Publisher: Altium Limited; HelpURL: http://www.actel.com/documents/pa3_libguide.pdf
pins: D (in), E (in), PAD (out)

## TRIBUFF_S_2
designator U?
Tri-state output withLow slew; FPGAVendor: Actel; Published: 25-Oct-2005; Publisher: Altium Limited; HelpURL: http://www.actel.com/documents/pa3_libguide.pdf
pins: D (in), E (in), PAD (out)

## TRIBUFF_S_2D
designator U?
Tri-state output withLow slew andPull-down resistor; FPGAVendor: Actel; Published: 25-Oct-2005; Publisher: Altium Limited; HelpURL: http://www.actel.com/documents/pa3_libguide.pdf
pins: D (in), E (in), PAD (out)

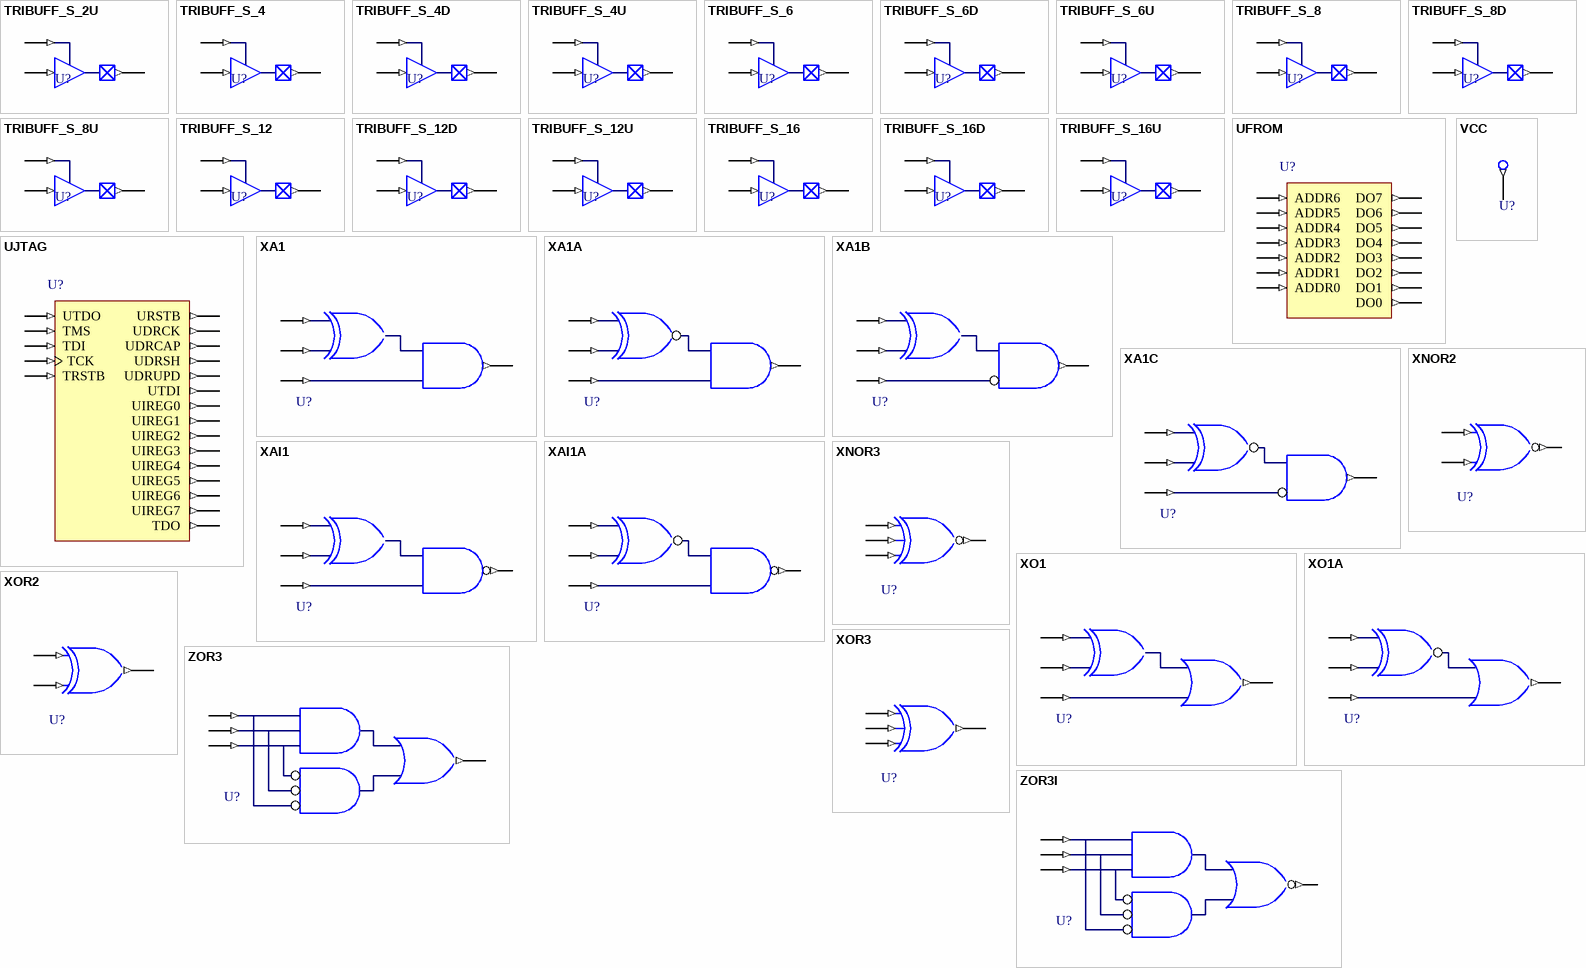
[diagram p9: symbols TRIBUFF_S_2U to ZOR3I]

## TRIBUFF_S_2U
designator U?
Tri-state output withLow slew andPull-up resistor; FPGAVendor: Actel; Published: 25-Oct-2005; Publisher: Altium Limited; HelpURL: http://www.actel.com/documents/pa3_libguide.pdf
pins: D (in), E (in), PAD (out)

## TRIBUFF_S_4
designator U?
Tri-state output withLow slew; FPGAVendor: Actel; Published: 25-Oct-2005; Publisher: Altium Limited; HelpURL: http://www.actel.com/documents/pa3_libguide.pdf
pins: D (in), E (in), PAD (out)

## TRIBUFF_S_4D
designator U?
Tri-state output withLow slew andPull-down resistor; FPGAVendor: Actel; Published: 25-Oct-2005; Publisher: Altium Limited; HelpURL: http://www.actel.com/documents/pa3_libguide.pdf
pins: D (in), E (in), PAD (out)

## TRIBUFF_S_4U
designator U?
Tri-state output withLow slew andPull-up resistor; FPGAVendor: Actel; Published: 25-Oct-2005; Publisher: Altium Limited; HelpURL: http://www.actel.com/documents/pa3_libguide.pdf
pins: D (in), E (in), PAD (out)

## TRIBUFF_S_6
designator U?
Tri-state output withLow slew; FPGAVendor: Actel; Published: 25-Oct-2005; Publisher: Altium Limited; HelpURL: http://www.actel.com/documents/pa3_libguide.pdf
pins: D (in), E (in), PAD (out)

## TRIBUFF_S_6D
designator U?
Tri-state output withLow slew andPull-down resistor; FPGAVendor: Actel; Published: 25-Oct-2005; Publisher: Altium Limited; HelpURL: http://www.actel.com/documents/pa3_libguide.pdf
pins: D (in), E (in), PAD (out)

## TRIBUFF_S_6U
designator U?
Tri-state output withLow slew andPull-up resistor; FPGAVendor: Actel; Published: 25-Oct-2005; Publisher: Altium Limited; HelpURL: http://www.actel.com/documents/pa3_libguide.pdf
pins: D (in), E (in), PAD (out)

## TRIBUFF_S_8
designator U?
Tri-state output withLow slew; FPGAVendor: Actel; Published: 25-Oct-2005; Publisher: Altium Limited; HelpURL: http://www.actel.com/documents/pa3_libguide.pdf
pins: D (in), E (in), PAD (out)

## TRIBUFF_S_8D
designator U?
Tri-state output withLow slew andPull-up resistor; FPGAVendor: Actel; Published: 25-Oct-2005; Publisher: Altium Limited; HelpURL: http://www.actel.com/documents/pa3_libguide.pdf
pins: D (in), E (in), PAD (out)

## TRIBUFF_S_8U
designator U?
Tri-state output withLow slew andPull-down resistor; FPGAVendor: Actel; Published: 25-Oct-2005; Publisher: Altium Limited; HelpURL: http://www.actel.com/documents/pa3_libguide.pdf
pins: D (in), E (in), PAD (out)

## TRIBUFF_S_12
designator U?
Tri-state output withLow slew; FPGAVendor: Actel; Published: 25-Oct-2005; Publisher: Altium Limited; HelpURL: http://www.actel.com/documents/pa3_libguide.pdf
pins: D (in), E (in), PAD (out)

## TRIBUFF_S_12D
designator U?
Tri-state output withLow slew andPull-down resistor; FPGAVendor: Actel; Published: 25-Oct-2005; Publisher: Altium Limited; HelpURL: http://www.actel.com/documents/pa3_libguide.pdf
pins: D (in), E (in), PAD (out)

## TRIBUFF_S_12U
designator U?
Tri-state output withLow slew andPull-up resistor; FPGAVendor: Actel; Published: 25-Oct-2005; Publisher: Altium Limited; HelpURL: http://www.actel.com/documents/pa3_libguide.pdf
pins: D (in), E (in), PAD (out)

## TRIBUFF_S_16
designator U?
Tri-state output withLow slew; FPGAVendor: Actel; Published: 25-Oct-2005; Publisher: Altium Limited; HelpURL: http://www.actel.com/documents/pa3_libguide.pdf
pins: D (in), E (in), PAD (out)

## TRIBUFF_S_16D
designator U?
Tri-state output withLow slew and 3xPull-down resistor; FPGAVendor: Actel; Published: 25-Oct-2005; Publisher: Altium Limited; HelpURL: http://www.actel.com/documents/pa3_libguide.pdf
pins: D (in), E (in), PAD (out)

## TRIBUFF_S_16U
designator U?
Tri-state output withLow slew andPull-up resistor; FPGAVendor: Actel; Published: 25-Oct-2005; Publisher: Altium Limited; HelpURL: http://www.actel.com/documents/pa3_libguide.pdf
pins: D (in), E (in), PAD (out)

## UFROM
designator U?
USER FlashROM macro.; FPGAVendor: Actel; Published: 25-Oct-2005; Publisher: Altium Limited; HelpURL: http://www.actel.com/documents/pa3_libguide.pdf
pins: ADDR0 (in), ADDR1 (in), ADDR2 (in), ADDR3 (in), ADDR4 (in), ADDR5 (in), ADDR6 (in), DO0 (out), DO1 (out), DO2 (out), DO3 (out), DO4 (out), DO5 (out), DO6 (out), DO7 (out)

## UJTAG
designator U?
A special purpose macro.; FPGAVendor: Actel; Published: 25-Oct-2005; Publisher: Altium Limited; HelpURL: http://www.actel.com/documents/pa3_libguide.pdf
pins: TCK (in), TDI (in), TDO (out), TMS (in), TRSTB (in), UDRCAP (out), UDRCK (out), UDRSH (out), UDRUPD (out), UIREG0 (out), UIREG1 (out), UIREG2 (out), UIREG3 (out), UIREG4 (out), UIREG5 (out), UIREG6 (out), UIREG7 (out), URSTB (out), UTDI (out), UTDO (in)

## VCC
designator U?
Power; FPGAVendor: Actel; Published: 25-Oct-2005; Publisher: Altium Limited; HelpURL: http://www.actel.com/documents/pa3_libguide.pdf
pins: Y (out)

## XA1
designator U?
3-Input XOR-AND; FPGAVendor: Actel; Published: 25-Oct-2005; Publisher: Altium Limited; HelpURL: http://www.actel.com/documents/pa3_libguide.pdf
pins: A (in), B (in), C (in), Y (out)

## XA1A
designator U?
3-Input XNOR-AND; FPGAVendor: Actel; Published: 25-Oct-2005; Publisher: Altium Limited; HelpURL: http://www.actel.com/documents/pa3_libguide.pdf
pins: A (in), B (in), C (in), Y (out)

## XA1B
designator U?
3-Input XNOR-AND with active low C-input; FPGAVendor: Actel; Published: 25-Oct-2005; Publisher: Altium Limited; HelpURL: http://www.actel.com/documents/pa3_libguide.pdf
pins: A (in), B (in), C (in), Y (out)

## XA1C
designator U?
3-Input XNOR-AND with active low C-input; FPGAVendor: Actel; Published: 25-Oct-2005; Publisher: Altium Limited; HelpURL: http://www.actel.com/documents/pa3_libguide.pdf
pins: A (in), B (in), C (in), Y (out)

## XAI1
designator U?
3-Input XNOR-NAND; FPGAVendor: Actel; Published: 25-Oct-2005; Publisher: Altium Limited; HelpURL: http://www.actel.com/documents/pa3_libguide.pdf
pins: A (in), B (in), C (in), Y (out)

## XAI1A
designator U?
3-Input XNOR-NAND; FPGAVendor: Actel; Published: 25-Oct-2005; Publisher: Altium Limited; HelpURL: http://www.actel.com/documents/pa3_libguide.pdf
pins: A (in), B (in), C (in), Y (out)

## XNOR2
designator U?
2- Input XNOR; FPGAVendor: Actel; Published: 25-Oct-2005; Publisher: Altium Limited; HelpURL: http://www.actel.com/documents/pa3_libguide.pdf
pins: A (in), B (in), Y (out)

## XNOR3
designator U?
3-Input XNOR; FPGAVendor: Actel; Published: 25-Oct-2005; Publisher: Altium Limited; HelpURL: http://www.actel.com/documents/pa3_libguide.pdf
pins: A (in), B (in), C (in), Y (out)

## XO1
designator U?
3-Input XOR-OR; FPGAVendor: Actel; Published: 25-Oct-2005; Publisher: Altium Limited; HelpURL: http://www.actel.com/documents/pa3_libguide.pdf
pins: A (in), B (in), C (in), Y (out)

## XO1A
designator U?
3-Input XNOR-OR; FPGAVendor: Actel; Published: 25-Oct-2005; Publisher: Altium Limited; HelpURL: http://www.actel.com/documents/pa3_libguide.pdf
pins: A (in), B (in), C (in), Y (out)

## XOR2
designator U?
2-Input XOR; FPGAVendor: Actel; Published: 25-Oct-2005; Publisher: Altium Limited; HelpURL: http://www.actel.com/documents/pa3_libguide.pdf
pins: A (in), B (in), Y (out)

## XOR3
designator U?
3-Input XOR; FPGAVendor: Actel; Published: 25-Oct-2005; Publisher: Altium Limited; HelpURL: http://www.actel.com/documents/pa3_libguide.pdf
pins: A (in), B (in), C (in), Y (out)

## ZOR3
designator U?
3-Input function; FPGAVendor: Actel; Published: 25-Oct-2005; Publisher: Altium Limited; HelpURL: http://www.actel.com/documents/pa3_libguide.pdf
pins: A (in), B (in), C (in), Y (out)

## ZOR3I
designator U?
3-Input function; FPGAVendor: Actel; Published: 25-Oct-2005; Publisher: Altium Limited; HelpURL: http://www.actel.com/documents/pa3_libguide.pdf
pins: A (in), B (in), C (in), Y (out)